# Altium schematic symbol library TMP235A2DCKR.SchLib: 1 symbol
Pins are listed as number, name and electrical type; pins without a type are passive.

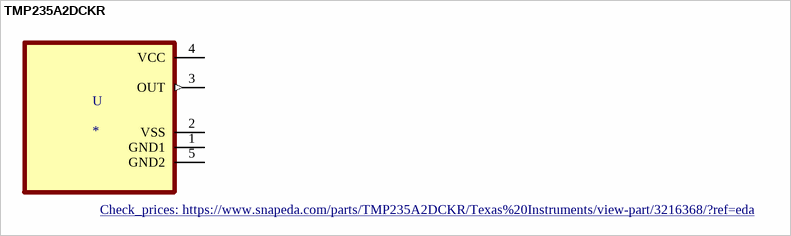
[diagram p0: symbol TMP235A2DCKR]

## TMP235A2DCKR
designator U
1.2C 2.3V to 5.5V analog output temperature sensor with -13.6 mV/C gain 5-SC70 -40 to 150; MF: Texas Instruments; MP: TMP235A2DCKR; Mouser-Purchase-URL: https://snapeda.com/shop?store=Mouser&id=3216368; Price: None; SnapEDA_Link: https://www.snapeda.com/parts/TMP235A2DCKR/Texas%20Instruments/view-part/3216368/?ref=snap; Availability: Good; Value: *; Package: SOT-SC70-5 Texas Instruments; Texas_Instruments-Purchase-URL: https://snapeda.com/shop?store=Texas+Instruments&id=3216368; DigiKey-Purchase-URL: https://snapeda.com/shop?store=DigiKey&id=3216368; Check_prices: https://www.snapeda.com/parts/TMP235A2DCKR/Texas%20Instruments/view-part/3216368/?ref=eda
footprint SOT65P210X110-5N
pins: 1 GND1 (power), 2 VSS (power), 3 OUT (out), 4 VCC (power), 5 GND2 (power)